# EAGLE library part MCP1727 (library PonLib)
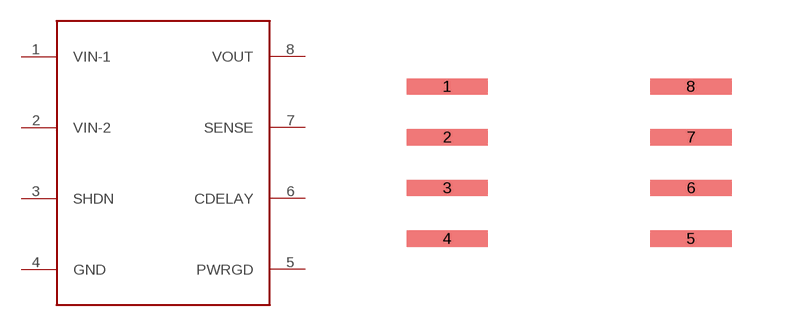
[diagram p6: symbol with the pads of SOIC8-N; footprint SOIC8-N]

Designator prefix -

## MCP1727  [SOIC8-N]
1  VIN-1
2  VIN-2
3  SHDN
4  GND
5  PWRGD
6  CDELAY
7  SENSE
8  VOUT

## Footprint SOIC8-N (pad centres in mm)
smd 2.032 x 0.406: 1 -3.048,1.905; 2 -3.048,0.635; 3 -3.048,-0.635; 4 -3.048,-1.905; 5 3.048,-1.905; 6 3.048,-0.635; 7 3.048,0.635; 8 3.048,1.905